# Altium footprint library Sampler_DIOT.PcbLib: 54 footprints (part 4 of 4)
Each footprint in its own frame and in the unit in brackets; x right, y up, seen from the top. Pads: shape width x height; smd on the part's side, far side on the other; paste and mask are expansions set on the pad; w line width, h text height; cw(c..) or ccw(c..) is an arc to the next point about the centre after c.
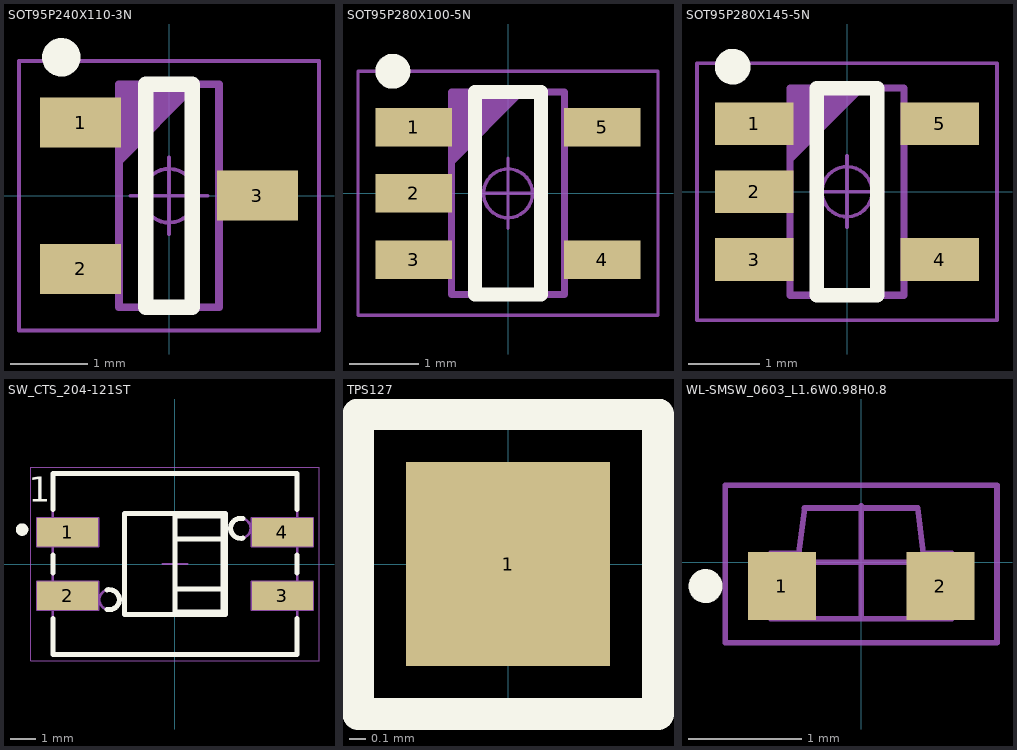
[diagram p3: the footprints below, top view; thin cyan lines are the x and y axes]

## SOT95P240X110-3N [mm]
pads (3):
  rect 1.05x0.65 smd: 1(-1.15,0.95) 2(-1.15,-0.95) 3(1.15,0)
Top Overlay:
  circle w0.25: c-1.4,1.8 r0.125
  lines w0.2: -0.3,-1.45 0.3,-1.45 0.3,1.45 -0.3,1.45 -0.3,-1.45
Top Assembly:
  lines w0.1: -0.65,0.45 0.35,1.45 ; -0.65,0.55 0.25,1.45 ; -0.65,0.65 0.15,1.45 ; -0.65,0.75 0.05,1.45 ; -0.65,0.85 -0.05,1.45 ; -0.65,0.95 -0.15,1.45 ; -0.65,1.05 -0.25,1.45 ; -0.65,1.15 -0.35,1.45 ; -0.65,1.25 -0.45,1.45 ; -0.65,1.35 -0.55,1.45 ; -0.65,-1.45 -0.65,1.45 0.65,1.45 0.65,-1.45 -0.65,-1.45
Top Courtyard (Mech15):
  circle w0.05: c0,0 r0.35
  lines w0.05: -0.5,0 0.5,0 ; 0,-0.5 0,0.5 ; -1.95,-1.75 -1.95,1.75 1.95,1.75 1.95,-1.75 -1.95,-1.75
3D body "SOT95P240X110-3N.stp": height 1.1, standoff 0, extent -1.25,-1.5 1.25,1.5

## SOT95P280X100-5N [mm]
pads (5):
  rect 1.1x0.55 smd: 1(-1.35,0.95) 2(-1.35,0) 3(-1.35,-0.95) 4(1.35,-0.95) 5(1.35,0.95)
Top Overlay:
  circle w0.25: c-1.65,1.75 r0.125
  lines w0.2: -0.475,-1.45 -0.475,1.45 0.475,1.45 0.475,-1.45 -0.475,-1.45
Top Assembly:
  lines w0.1: -0.812,0.45 0.188,1.45 ; -0.812,0.55 0.088,1.45 ; -0.812,0.65 -0.012,1.45 ; -0.812,0.75 -0.112,1.45 ; -0.812,0.85 -0.212,1.45 ; -0.812,0.95 -0.312,1.45 ; -0.812,1.05 -0.412,1.45 ; -0.812,1.15 -0.512,1.45 ; -0.812,1.25 -0.612,1.45 ; -0.812,1.35 -0.712,1.45 ; -0.812,-1.45 0.812,-1.45 0.812,1.45 -0.812,1.45 -0.812,-1.45
Top Courtyard (Mech15):
  circle w0.05: c0,0 r0.35
  lines w0.05: -0.5,0 0.5,0 ; 0,-0.5 0,0.5 ; -2.15,-1.75 2.15,-1.75 2.15,1.75 -2.15,1.75 -2.15,-1.75
3D body "SOT95P280X100-5N.stp": height 1, standoff 0, extent -1.4,-1.5 1.4,1.5

## SOT95P280X145-5N [mm]
pads (5):
  rect 1.1x0.6 smd: 1(-1.3,0.95) 2(-1.3,0) 3(-1.3,-0.95) 4(1.3,-0.95) 5(1.3,0.95)
Top Overlay:
  circle w0.25: c-1.6,1.75 r0.125
  lines w0.2: -0.425,-1.45 0.425,-1.45 0.425,1.45 -0.425,1.45 -0.425,-1.45
Top Assembly:
  lines w0.1: -0.8,0.45 0.2,1.45 ; -0.8,0.55 0.1,1.45 ; -0.8,0.65 0,1.45 ; -0.8,0.75 -0.1,1.45 ; -0.8,0.85 -0.2,1.45 ; -0.8,0.95 -0.3,1.45 ; -0.8,1.05 -0.4,1.45 ; -0.8,1.15 -0.5,1.45 ; -0.8,1.25 -0.6,1.45 ; -0.8,1.35 -0.7,1.45 ; -0.8,-1.45 -0.8,1.45 0.8,1.45 0.8,-1.45 -0.8,-1.45
Top Courtyard (Mech15):
  circle w0.05: c0,0 r0.35
  lines w0.05: -0.5,0 0.5,0 ; 0,-0.5 0,0.5 ; -2.1,-1.8 -2.1,1.8 2.1,1.8 2.1,-1.8 -2.1,-1.8
3D body "SOT95P280X145-5N.stp": height 1.45, standoff 0, extent -1.4,-1.5 1.4,1.5

## SW_CTS_204-121ST [mm]
pads (4):
  rect 2.44x1.13 smd: 1(-4.3,1.27) 2(-4.3,-1.27) 3(4.3,-1.27) 4(4.3,1.27)
Top Overlay:
  circle w0.25: c-6.125,1.38 r0.125
  lines w0.2: -4.89,-2.185 -4.89,-3.63 4.89,-3.63 4.89,-2.185 ; -4.89,-0.355 -4.89,0.355 ; -4.89,2.185 -4.89,3.63 4.89,3.63 4.89,2.185 ; -2.73,-1.817 ccw(c-2.63,-1.43) -2.73,-1.043 ; 0,-1 1.93,-1 ; 0,1 1.93,1 ; 2.73,1.043 cw(c2.63,1.43) 2.73,1.817 ; 4.89,-0.355 4.89,0.355 ; -2.03,-2.03 2.03,-2.03 2.03,2.03 -2.03,2.03 -2.03,-2.03 ; 0,-1.93 0,1.93 1.93,1.93 1.93,-1.93 0,-1.93
  text "1" at -5.86,2.499 h1
Mechanical 8:
  lines w0.1: -0.5,0 0,0 ; 0,-0.5 0,0 ; 0,0.5 0,0 ; 0.5,0 0,0 ; -5.52,-1.835 -4.3,-1.27 -5.52,-0.705 ; -5.52,-1.835 -5.52,-0.705 ; -5.52,-1.835 -3.08,-1.835 -3.08,-0.705 -5.52,-0.705 ; -5.52,0.705 -4.3,1.27 -5.52,1.835 ; -5.52,0.705 -5.52,1.835 ; -5.52,0.705 -3.08,0.705 -3.08,1.835 -5.52,1.835 ; 5.52,-1.835 4.3,-1.27 5.52,-0.705 ; 5.52,-1.835 3.08,-1.835 3.08,-0.705 5.52,-0.705 ; 5.52,-1.835 5.52,-0.705 ; 5.52,0.705 4.3,1.27 5.52,1.835 ; 5.52,0.705 3.08,0.705 3.08,1.835 5.52,1.835 ; 5.52,0.705 5.52,1.835
Top Assembly:
  circle w0.1: c-2.63,-1.43 r0.4
  circle w0.1: c2.63,1.43 r0.4
  lines w0.1: -4.89,-1.51 -5.2,-1.51 -5.2,-1.03 -4.89,-1.03 ; -4.89,1.03 -5.2,1.03 -5.2,1.51 -4.89,1.51 ; 0,-1 1.93,-1 ; 0,1 1.93,1 ; 4.89,-1.51 5.2,-1.51 5.2,-1.03 4.89,-1.03 ; 4.89,1.03 5.2,1.03 5.2,1.51 4.89,1.51 ; -4.89,-3.63 4.89,-3.63 4.89,3.63 -4.89,3.63 -4.89,-3.63 ; -2.03,-2.03 -2.03,2.03 2.03,2.03 2.03,-2.03 -2.03,-2.03 ; 0,-1.93 1.93,-1.93 1.93,1.93 0,1.93 0,-1.93
  text "1" at -5.859,2.504 h1
Top Courtyard (Mech15):
  lines w0.05: -5.77,-3.88 5.77,-3.88 5.77,3.88 -5.77,3.88 -5.77,-3.88
3D body "SW_CTS_204-121ST.stp": height 9.76, standoff 0, extent -5.2,-3.63 5.2,3.63

## TPS127 [mm]
pads (1):
  rect 1.27x1.27 smd paste-1.27: 1(0,0)
Top Overlay:
  lines w0.2: -0.935,-0.935 0.935,-0.935 0.935,0.935 -0.935,0.935 -0.935,-0.935
Top Assembly:
  lines w0.1: -0.585,-0.585 -0.585,0.585 0.585,0.585 0.585,-0.585 -0.585,-0.585

## WL-SMSW_0603_L1.6W0.98H0.8 [mm]
pads (2):
  rect 0.6x0.6 smd: 1(-0.7,-0.21) 2(0.7,-0.21)
Top Overlay:
  circle w0.15: c-1.375,-0.21 r0.075
Top Assembly:
  rectangle: -0.8,-0.5 -0.65,0.08
  lines w0.05: -0.5,0.48 0.5,0.48 ; -0.499,0.48 -0.55,0.08 -0.8,0.08 -0.8,-0.5 0.8,-0.5 0.8,0.08 0.55,0.08 0.499,0.48
Top Courtyard (Mech15):
  lines w0.05: -0.5,0 0.5,0 ; 0,-0.5 0,0.5 ; -1.2,-0.71 1.2,-0.71 1.2,0.68 -1.2,0.68 -1.2,-0.71
3D body "155060xx75300.stp": height 0.8, standoff 0, extent -0.8,-0.5 0.8,0.48